# Altium schematic symbol library SCMR22L105SRBB0.SchLib: 1 symbol
Pins are listed as number, name and electrical type; pins without a type are passive.

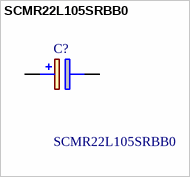
[diagram p0: symbol SCMR22L105SRBB0]

## SCMR22L105SRBB0
designator C?
Series-Connected Super Capacitor Modules  9.0V Straight Leads   Shrink Wrap/Radial; Manufacturer_Name: Kyocera AVX; Geometry.Height: 22mm; Manufacturer_Part_Number: SCMR22L105SRBB0; Mouser Part Number: 581-SCMR22L105SRBB0; Mouser Price/Stock: https://www.mouser.co.uk/ProductDetail/AVX/SCMR22L105SRBB0?qs=qSfuJ%252Bfl%2Fd5S4%2FZjZ0mbDA%3D%3D; Arrow Part Number: SCMR22L105SRBB0; Arrow Price/Stock: https://www.arrow.com/en/products/scmr22l105srbb0/avx; Datasheet Link: https://datasheet.datasheetarchive.com/originals/distributors/Datasheets_SAMA/1acd652de717f0406628b513d6ceaee9.pdf
footprint SCMR22L105SRBB0
pins: 1 -, 2 +